# Altium footprint library SMC.PcbLib: 1 footprints
Each footprint in its own frame and in the unit in brackets; x right, y up, seen from the top. Pads: shape width x height; smd on the part's side, far side on the other; paste and mask are expansions set on the pad; w line width, h text height; cw(c..) or ccw(c..) is an arc to the next point about the centre after c.
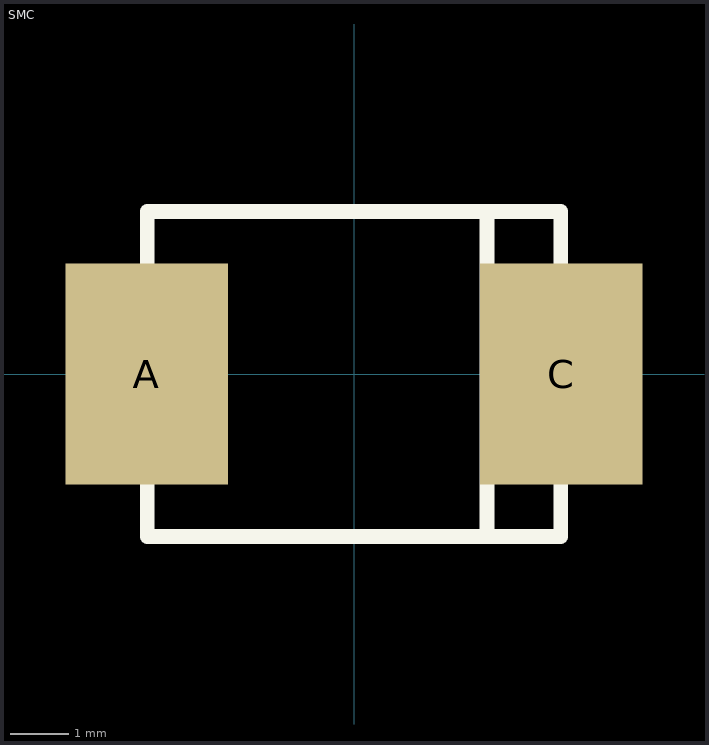
[diagram p0: the footprint, top view; thin cyan lines are the x and y axes]

## SMC [mil]
height 94.88
pads (2):
  rect 110x150 smd: A(-140.5,0) C(140.5,0)
Top Overlay:
  lines w10: 90,-110 90,110 ; -140,-110 140,-110 140,110 -140,110 -140,-110
3D body: height 90.75, standoff 0, extent -156.5,-116.89 156.5,115.39